# Altium schematic symbol library HMC931LP4E-QFN24.SchLib: 1 symbol
Pins are listed as number, name and electrical type; pins without a type are passive.

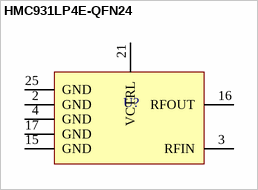
[diagram p0: symbol HMC931LP4E-QFN24]

## HMC931LP4E-QFN24
designator U?  (value not drawn)
pins: 2 GND, 3 RFIN, 4 GND, 15 GND, 16 RFOUT, 17 GND, 21 VCTRL, 25 GND